# EAGLE library part LME49721 (library ICs)
LME49721 High-Performance, High-Fidelity Rail-to-Rail Input/Output Audio Operational Amplifier
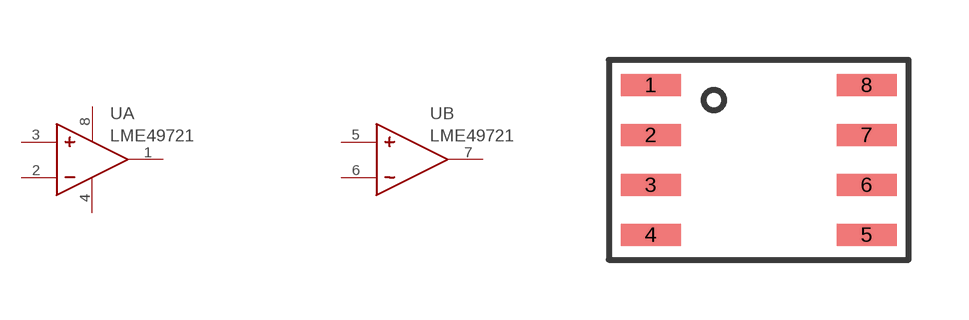
[diagram p139: symbol with the pads of SO8; footprint SO8]

Designator prefix U; gates A=OPAMP_SUPPLIES B=OPAMP_NOSUPPLIES

## LME49721 (FARNELL: 2496252; PRICE_PER: 1.45; VALUE: LME49721)  [SO8]
1  A:OUT
2  A:-
3  A:+
4  A:V-
5  B:+
6  B:-
7  B:OUT
8  A:V+

## Footprint SO8 (pad centres in mm)
smd 1.5 x 0.55: 1 -2.7,1.875; 2 -2.7,0.625; 3 -2.7,-0.625; 4 -2.7,-1.875; 5 2.7,-1.875; 6 2.7,-0.625; 7 2.7,0.625; 8 2.7,1.875